# Altium schematic symbol library Schlib1.SchLib: 1 symbol
Pins are listed as number, name and electrical type; pins without a type are passive.

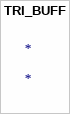
[diagram p0: symbol TRI_BUFF]

## TRI_BUFF
designator *
Supplier 1: Digi-Key; Supplier Part Number 1: 296-11606-1-ND
1 alternate drawing of the same symbol